# EAGLE library part 105017-1001 (library 105017-1001)
Conn USB Type B RCP 5 POS 0.65mm Solder RA Thru-Hole 5 Terminal 1 Port T/R Check availability <https://pricing.snapeda.com/parts/1050171001/Molex/view-part?ref=eda>
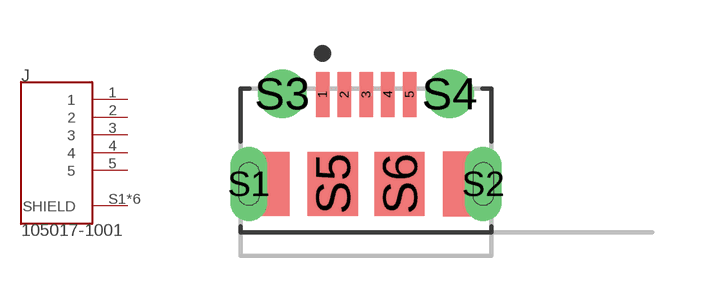
[diagram p0: symbol with the pads of MOLEX_105017-1001; footprint MOLEX_105017-1001]

Designator prefix J

## 105017-1001 (Availability: In Stock; Description: USB - micro B USB 2.0 Receptacle Connector 5 Position Surface Mount, Right Angle; MF: Molex; MP: 1050171001; Package: None; Price: None; Purchase-URL: https://pricing.snapeda.com/search/part/1050171001/?ref=eda)  [MOLEX_105017-1001]
1  1  pas
2  2  pas
3  3  pas
4  4  pas
5  5  pas
S1  SHIELD  pas
S2  SHIELD  pas
S3  SHIELD  pas
S4  SHIELD  pas
S5  SHIELD  pas
S6  SHIELD  pas

## Footprint MOLEX_105017-1001 (pad centres in mm)
smd 0.4 x 1.35: 1 -1.3,2.675; 2 -0.65,2.675; 3 0,2.675; 4 0.65,2.675; 5 1.3,2.675
drill 0.6 pad 0.95 long: S1 -3.5,0; S2 3.5,0
drill 0.85 pad 1.45: S3 -2.5,2.7; S4 2.5,2.7
smd 1.5 x 1.9: S5 -1,0; S6 1,0